# Altium footprint library U_Conn_10mmHALFA.PcbLib: 1 footprints
Each footprint in its own frame and in the unit in brackets; x right, y up, seen from the top. Pads: shape width x height; smd on the part's side, far side on the other; paste and mask are expansions set on the pad; w line width, h text height; cw(c..) or ccw(c..) is an arc to the next point about the centre after c.
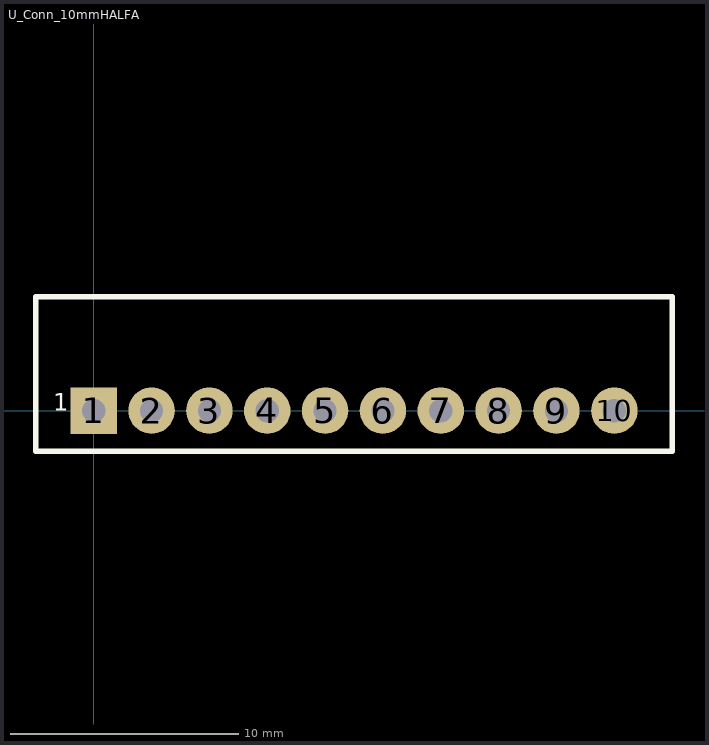
[diagram p0: the footprint, top view; thin cyan lines are the x and y axes]

## U_Conn_10mmHALFA [mm]
pads (10):
  rect 2.04x2.04 hole 1.02: 1(0,0)
  round 2.04 hole 1.02: 2(2.54,0) 3(5.08,0) 4(7.62,0) 5(10.16,0) 6(12.7,0) 7(15.24,0) 8(17.78,0) 9(20.32,0) 10(22.86,0)
Top Overlay:
  lines w0.254: -2.54,-1.778 -2.54,5 25.4,5 25.4,-1.778 -2.54,-1.778
  text "1" at -1.778,0 h0.76